# Altium footprint library ICs.PcbLib: 1 footprints
Each footprint in its own frame and in the unit in brackets; x right, y up, seen from the top. Pads: shape width x height; smd on the part's side, far side on the other; paste and mask are expansions set on the pad; w line width, h text height; cw(c..) or ccw(c..) is an arc to the next point about the centre after c.
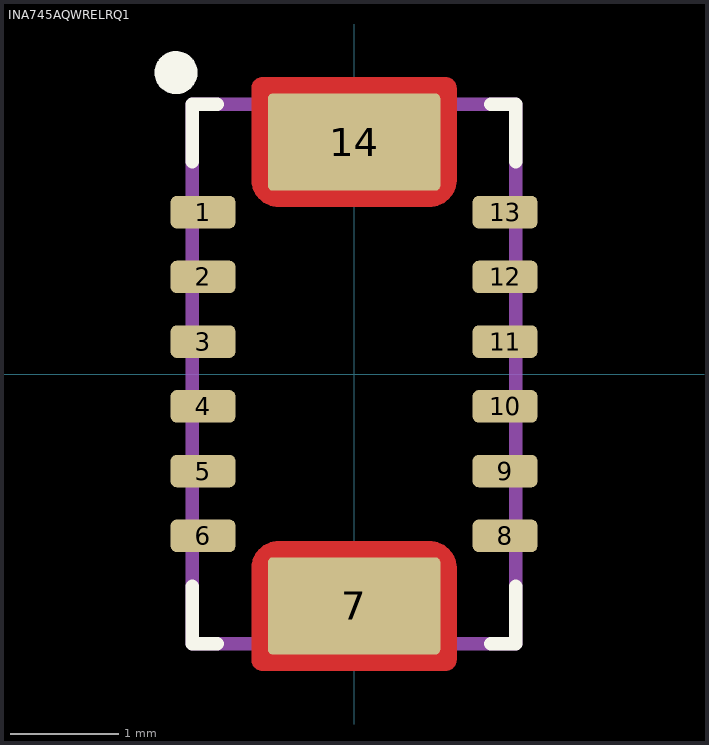
[diagram p0: the footprint, top view; thin cyan lines are the x and y axes]

## INA745AQWRELRQ1 [mm]
pads (14):
  rrect35% 0.6x0.3 smd paste+0 mask+0: 1(-1.4,1.5) 2(-1.4,0.9) 3(-1.4,0.3) 4(-1.4,-0.3) 5(-1.4,-0.9) 6(-1.4,-1.5) 8(1.4,-1.5) 9(1.4,-0.9) 10(1.4,-0.3) 11(1.4,0.3) 12(1.4,0.9) 13(1.4,1.5)
  rrect10% 1.6x0.9 smd paste-2 mask+0: 7(0,-2.15) 14(0,2.15)
Top Layer:
  region: 0.726,-1.551 0.739,-1.553 0.752,-1.555 0.765,-1.559 0.777,-1.562 0.79,-1.567 0.802,-1.572 0.813,-1.577 0.825,-1.583 0.836,-1.59 0.847,-1.598 0.857,-1.606 0.867,-1.614 0.877,-1.623 0.886,-1.633 0.894,-1.643 0.902,-1.653 0.91,-1.664 0.917,-1.675 0.923,-1.687 0.928,-1.698 0.933,-1.71 0.938,-1.723 0.941,-1.735 0.945,-1.748 0.947,-1.761 0.949,-1.774 0.95,-1.787 0.95,-1.8 0.95,-2.65 0.95,-2.655 0.949,-2.66 0.949,-2.666 0.948,-2.671 0.947,-2.676 0.945,-2.681 0.943,-2.686 0.941,-2.691 0.939,-2.695 0.937,-2.7 0.934,-2.704 0.931,-2.709 0.928,-2.713 0.924,-2.717 0.921,-2.721 0.917,-2.724 0.913,-2.728 0.909,-2.731 0.904,-2.734 0.9,-2.737 0.895,-2.739 0.891,-2.741 0.886,-2.743 0.881,-2.745 0.876,-2.747 0.871,-2.748 0.866,-2.749 0.86,-2.749 0.855,-2.75 -0.855,-2.75 -0.86,-2.749 -0.866,-2.749 -0.871,-2.748 -0.876,-2.747 -0.881,-2.745 -0.886,-2.743 -0.891,-2.741 -0.895,-2.739 -0.9,-2.737 -0.904,-2.734 -0.909,-2.731 -0.913,-2.728 -0.917,-2.724 -0.921,-2.721 -0.924,-2.717 -0.928,-2.713 -0.931,-2.709 -0.934,-2.704 -0.937,-2.7 -0.939,-2.695 -0.941,-2.691 -0.943,-2.686 -0.945,-2.681 -0.947,-2.676 -0.948,-2.671 -0.949,-2.666 -0.949,-2.66 -0.95,-2.655 -0.95,-2.65 -0.95,-1.8 -0.95,-1.787 -0.949,-1.774 -0.947,-1.761 -0.945,-1.748 -0.941,-1.735 -0.938,-1.723 -0.933,-1.71 -0.928,-1.698 -0.923,-1.687 -0.917,-1.675 -0.91,-1.664 -0.902,-1.653 -0.894,-1.643 -0.886,-1.633 -0.877,-1.623 -0.867,-1.614 -0.857,-1.606 -0.847,-1.598 -0.836,-1.59 -0.825,-1.583 -0.813,-1.577 -0.802,-1.572 -0.79,-1.567 -0.777,-1.562 -0.765,-1.559 -0.752,-1.555 -0.739,-1.553 -0.726,-1.551 -0.713,-1.55 0.713,-1.55
  region: 0.86,2.749 0.866,2.749 0.871,2.748 0.876,2.747 0.881,2.745 0.886,2.743 0.891,2.741 0.895,2.739 0.9,2.737 0.904,2.734 0.909,2.731 0.913,2.728 0.917,2.724 0.921,2.721 0.924,2.717 0.928,2.713 0.931,2.709 0.934,2.704 0.937,2.7 0.939,2.695 0.941,2.691 0.943,2.686 0.945,2.681 0.947,2.676 0.948,2.671 0.949,2.666 0.949,2.66 0.95,2.655 0.95,2.65 0.95,1.8 0.95,1.787 0.949,1.774 0.947,1.761 0.945,1.748 0.941,1.735 0.938,1.723 0.933,1.71 0.928,1.698 0.923,1.687 0.917,1.675 0.91,1.664 0.902,1.653 0.894,1.643 0.886,1.633 0.877,1.623 0.867,1.614 0.857,1.606 0.847,1.598 0.836,1.59 0.825,1.583 0.813,1.577 0.802,1.572 0.79,1.567 0.777,1.562 0.765,1.559 0.752,1.555 0.739,1.553 0.726,1.551 0.713,1.55 -0.713,1.55 -0.726,1.551 -0.739,1.553 -0.752,1.555 -0.765,1.559 -0.777,1.562 -0.79,1.567 -0.802,1.572 -0.813,1.577 -0.825,1.583 -0.836,1.59 -0.847,1.598 -0.857,1.606 -0.867,1.614 -0.877,1.623 -0.886,1.633 -0.894,1.643 -0.902,1.653 -0.91,1.664 -0.917,1.675 -0.923,1.687 -0.928,1.698 -0.933,1.71 -0.938,1.723 -0.941,1.735 -0.945,1.748 -0.947,1.761 -0.949,1.774 -0.95,1.787 -0.95,1.8 -0.95,2.65 -0.95,2.655 -0.949,2.66 -0.949,2.666 -0.948,2.671 -0.947,2.676 -0.945,2.681 -0.943,2.686 -0.941,2.691 -0.939,2.695 -0.937,2.7 -0.934,2.704 -0.931,2.709 -0.928,2.713 -0.924,2.717 -0.921,2.721 -0.917,2.724 -0.913,2.728 -0.909,2.731 -0.904,2.734 -0.9,2.737 -0.895,2.739 -0.891,2.741 -0.886,2.743 -0.881,2.745 -0.876,2.747 -0.871,2.748 -0.866,2.749 -0.86,2.749 -0.855,2.75 0.855,2.75
Top Overlay:
  circle w0.2: c-1.651,2.794 r0.1
  lines w0.127: -1.5,-1.97 -1.5,-2.5 -1.27,-2.5 ; -1.5,1.97 -1.5,2.5 -1.27,2.5 ; 1.27,-2.5 1.5,-2.5 1.5,-1.97 ; 1.27,2.5 1.5,2.5 1.5,1.97
Top Paste:
  drawing of 8 lines, arcs and shapes, not listed
Top Solder:
  drawing of 14 lines, arcs and shapes, not listed
Mechanical 13:
  circle w0.2: c-1.651,2.794 r0
  lines w0.127: -1.5,-2.5 1.5,-2.5 1.5,2.5 -1.5,2.5 -1.5,-2.5
3D body "step_temp.STEP": height 1, standoff 0, extent -1.5,-2.5 1.5,2.5